# Altium schematic symbol library Schlib1.SchLib: 3 symbols
Pins are listed as number, name and electrical type; pins without a type are passive.

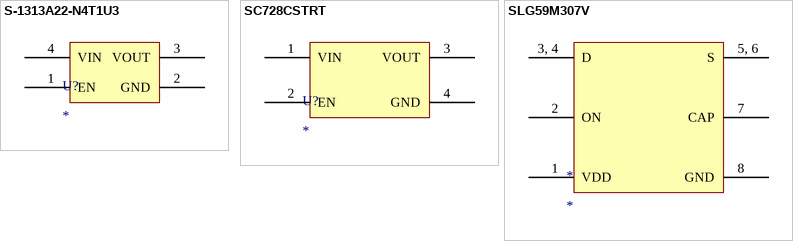
[diagram p0: symbols S-1313A22-N4T1U3 to SLG59M307V]

## S-1313A22-N4T1U3
designator U?
footprint SOT130P210X110-4N (SOT343, 4-Leads, Body 2.00x2.10mm, Pitch 1.30mm, IPC Medium Density)
pins: 1 EN, 2 GND, 3 VOUT, 4 VIN

## SC728CSTRT
designator U?
footprint CSp 4; pin to pad 1>A1 2>A2 3>B1 4>B2
pins: 1 VIN, 2 EN, 3 VOUT, 4 GND

## SLG59M307V
designator *
footprint FC-TDFN 8L
pins: 1 VDD, 2 ON, 3, 4 D, 5, 6 S, 7 CAP, 8 GND